# Altium footprint library PCB - LEADED - SOT65P210X110-6N.PCBLIB: 1 footprints
Each footprint in its own frame and in the unit in brackets; x right, y up, seen from the top. Pads: shape width x height; smd on the part's side, far side on the other; paste and mask are expansions set on the pad; w line width, h text height; cw(c..) or ccw(c..) is an arc to the next point about the centre after c.
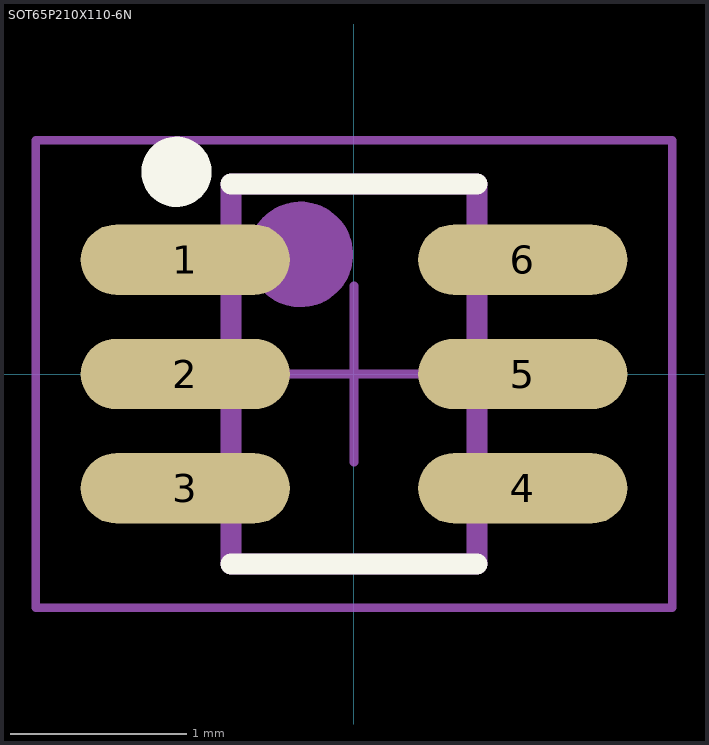
[diagram p0: the footprint, top view; thin cyan lines are the x and y axes]

## SOT65P210X110-6N [mm]
height 1.1
pads (6):
  oval 1.19x0.4 smd: 1(-0.96,0.65) 2(-0.96,0) 3(-0.96,-0.65) 4(0.96,-0.65) 5(0.96,0) 6(0.96,0.65)
Top Overlay:
  circle w0.2: c-1.01,1.15 r0.1
  lines w0.12: -0.7,-1.08 0.7,-1.08 ; -0.7,1.08 0.7,1.08
Top Assembly:
  circle w0.3: c-0.305,0.68 r0.15
  lines w0.12: -0.7,-1.08 0.7,-1.08 0.7,1.08 -0.7,1.08 -0.7,-1.08
Top Courtyard:
  lines w0.05: -1.81,-1.33 -1.81,1.33 1.81,1.33 1.81,-1.33 -1.81,-1.33
Top Designator:
  text ".Designator" at -0.75,-2.25 h1
Top Component Center:
  lines w0.05: -0.5,0 0.5,0 ; 0,-0.5 0,0.5
3D body "SOP65P210X110-6L20.STEP": height 1.1, standoff 0, extent -1.05,-1 1.05,1